# EAGLE library part MICROSPEC-C12666MA (library Spectron2)
Hamamatsu Micro-Spectrometer C12666MA 350-750nm
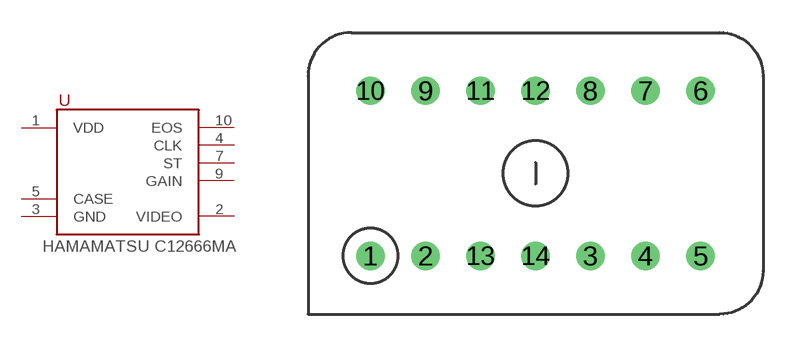
[diagram p12: symbol with the pads of C12666MA; footprint C12666MA]

Designator prefix U

## MICROSPEC-C12666MA  [C12666MA]
1  VDD
2  VIDEO
3  GND
4  CLK
5  CASE
7  ST
9  GAIN
10  EOS

## Footprint C12666MA (pad centres in mm)
drill 0.8: 1 -7.62,-3.81; 2 -5.08,-3.81; 3 2.54,-3.81; 4 5.08,-3.81; 5 7.62,-3.81; 6 7.62,3.81; 7 5.08,3.81; 8 2.54,3.81; 9 -5.08,3.81; 10 -7.62,3.81; 11 -2.54,3.81; 12 0,3.81; 13 -2.54,-3.81; 14 0,-3.81